# Altium footprint library JEDEC_MO-178.PcbLib: 2 footprints
Each footprint in its own frame and in the unit in brackets; x right, y up, seen from the top. Pads: shape width x height; smd on the part's side, far side on the other; paste and mask are expansions set on the pad; w line width, h text height; cw(c..) or ccw(c..) is an arc to the next point about the centre after c.
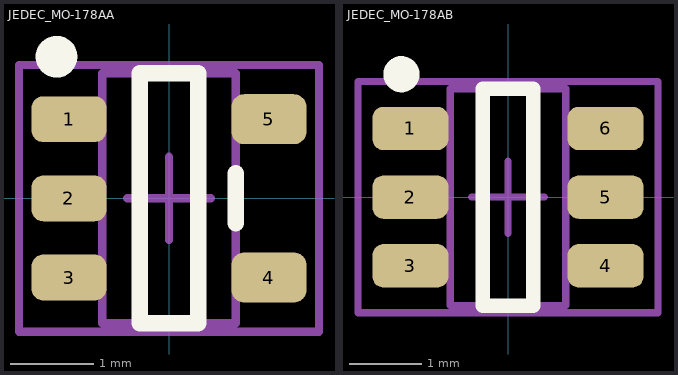
[diagram p0: the footprints below, top view; thin cyan lines are the x and y axes]

## JEDEC_MO-178AA [mm] "SOT753, 5-Leads, Body 3x1.6mm, Pitch 0.95mm, Lead Span 2.8mm, IPC High Density"
height 1.1
pads (5):
  rrect50% 0.9x0.55 smd: 1(-1.2,0.95) 2(-1.2,0) 3(-1.2,-0.95)
  rrect50% 0.9x0.6 smd: 4(1.2,-0.95) 5(1.2,0.95)
Top Overlay:
  circle w0.25: c-1.35,1.7 r0.125
  lines w0.2: 0.8,-0.3 0.8,0.3 ; -0.35,-1.5 -0.35,1.5 0.35,1.5 0.35,-1.5 -0.35,-1.5
Mechanical 13:
  lines w0.1: -0.8,-1.5 -0.8,1.5 0.8,1.5 0.8,-1.5 -0.8,-1.5
Mechanical 15:
  lines w0.1: -0.5,0 0.5,0 ; 0,-0.5 0,0.5 ; -1.8,-1.6 -1.8,1.6 1.8,1.6 1.8,-1.6 -1.8,-1.6
3D body: height 1.1, standoff 0, extent -0.799,-1.499 0.799,1.499

## JEDEC_MO-178AB [mm]
pads (6):
  rrect50% 1.05x0.6 smd: 1(-1.35,0.95) 2(-1.35,0) 3(-1.35,-0.95) 4(1.35,-0.95) 5(1.35,0) 6(1.35,0.95)
Top Overlay:
  circle w0.25: c-1.475,1.7 r0.125
  lines w0.2: -0.35,-1.5 0.35,-1.5 0.35,1.5 -0.35,1.5 -0.35,-1.5
Mechanical 13:
  lines w0.1: -0.8,-1.5 0.8,-1.5 0.8,1.5 -0.8,1.5 -0.8,-1.5
Mechanical 15:
  lines w0.1: -0.5,0 0.5,0 ; 0,-0.5 0,0.5 ; -2.075,-1.6 2.075,-1.6 2.075,1.6 -2.075,1.6 -2.075,-1.6
3D body: height 1.1, standoff -0.01, extent -1.45,-1.471 1.395,1.45